# EAGLE library part LM1117LD-5.0/NOPB (library LM1117LD_5_0_NOPB)
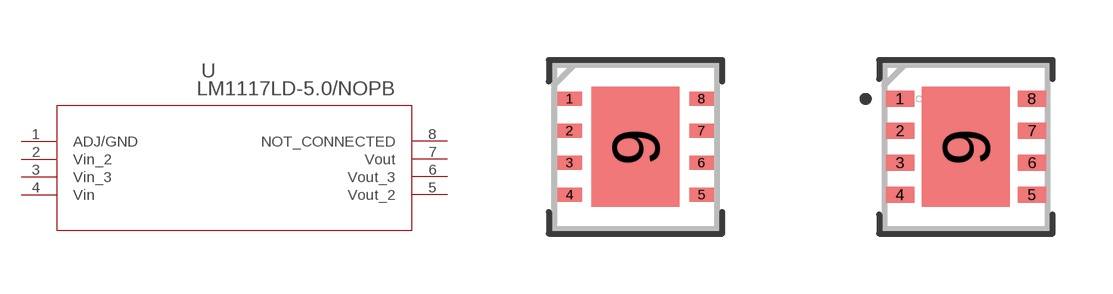
[diagram p0: symbol with the pads of LDC08A_TEX; footprints LDC08A_TEX, LDC08A_TEX-M]

Designator prefix U

## LM1117LD-5.0/NOPBLDC08A_TEX (Copyright: Copyright (C) 2025 Ultra Librarian. All rights reserved.; Manufacturer_Part_Number: LM1117LD-5.0/NOPB; Mfr_Name: Texas Instruments / National Semiconductor)  [LDC08A_TEX]
1  ADJ/GND  pas
2  Vin_2  in
3  Vin_3  in
4  Vin  in
5  Vout_2  out
6  Vout_3  out
7  Vout  out
8  NOT_CONNECTED  pas

## LM1117LD-5.0/NOPBLDC08A_TEX-M (Copyright: Copyright (C) 2025 Ultra Librarian. All rights reserved.; Manufacturer_Part_Number: LM1117LD-5.0/NOPB; Mfr_Name: Texas Instruments / National Semiconductor)  [LDC08A_TEX-M]
Pads as for LDC08A_TEX

## LM1117LD-5.0/NOPBLDC08A_TEX-L (Copyright: Copyright (C) 2025 Ultra Librarian. All rights reserved.; Manufacturer_Part_Number: LM1117LD-5.0/NOPB; Mfr_Name: Texas Instruments / National Semiconductor)  [LDC08A_TEX-L]
Pads as for LDC08A_TEX

## Footprint LDC08A_TEX (pad centres in mm)
smd 0.61 x 0.356: 1 -1.651,1.2; 2 -1.651,0.4; 3 -1.651,-0.4; 4 -1.651,-1.2; 5 1.651,-1.2; 6 1.651,-0.4; 7 1.651,0.4; 8 1.651,1.2
smd 2.2 x 3: 9 0,0

## Footprint LDC08A_TEX-M (pad centres in mm)
smd 0.711 x 0.406: 1 -1.651,1.2; 2 -1.651,0.4; 3 -1.651,-0.4; 4 -1.651,-1.2; 5 1.651,-1.2; 6 1.651,-0.4; 7 1.651,0.4; 8 1.651,1.2
smd 2.2 x 3: 9 0,0

## Footprint LDC08A_TEX-L (pad centres in mm)
smd 0.508 x 0.305: 1 -1.651,1.2; 2 -1.651,0.4; 3 -1.651,-0.4; 4 -1.651,-1.2; 5 1.651,-1.2; 6 1.651,-0.4; 7 1.651,0.4; 8 1.651,1.2
smd 2.2 x 3: 9 0,0